# EAGLE library part TSW-D-70 (library con-samtec-tsw)
HEADER
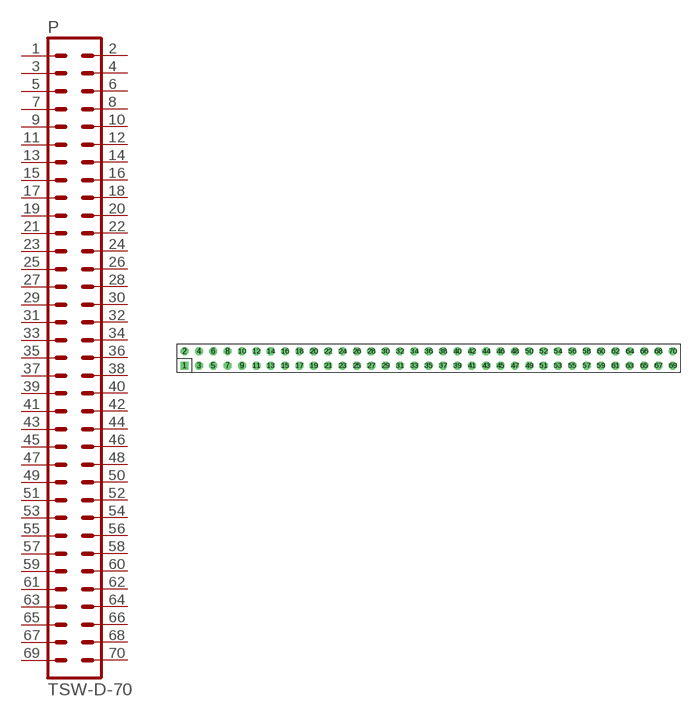
[diagram p122: symbol with the pads of TSW-D-70; footprint TSW-D-70]

Designator prefix P

## TSW-D-70  [TSW-D-70]
1  1  pas
2  2  pas
3  3  pas
4  4  pas
5  5  pas
6  6  pas
7  7  pas
8  8  pas
9  9  pas
10  10  pas
11  11  pas
12  12  pas
13  13  pas
14  14  pas
15  15  pas
16  16  pas
17  17  pas
18  18  pas
19  19  pas
20  20  pas
21  21  pas
22  22  pas
23  23  pas
24  24  pas
25  25  pas
26  26  pas
27  27  pas
28  28  pas
29  29  pas
30  30  pas
31  31  pas
32  32  pas
33  33  pas
34  34  pas
35  35  pas
36  36  pas
37  37  pas
38  38  pas
39  39  pas
40  40  pas
41  41  pas
42  42  pas
43  43  pas
44  44  pas
45  45  pas
46  46  pas
47  47  pas
48  48  pas
49  49  pas
50  50  pas
51  51  pas
52  52  pas
53  53  pas
54  54  pas
55  55  pas
56  56  pas
57  57  pas
58  58  pas
59  59  pas
60  60  pas
61  61  pas
62  62  pas
63  63  pas
64  64  pas
65  65  pas
66  66  pas
67  67  pas
68  68  pas
69  69  pas
70  70  pas

## Footprint TSW-D-70 (pad centres in mm)
HEADER
drill 0.914 square: 1 -43.18,-1.27
drill 0.914 octagon: 2 -43.18,1.27; 3 -40.64,-1.27; 4 -40.64,1.27; 5 -38.1,-1.27; 6 -38.1,1.27; 7 -35.56,-1.27; 8 -35.56,1.27; 9 -33.02,-1.27; 10 -33.02,1.27; 11 -30.48,-1.27; 12 -30.48,1.27; 13 -27.94,-1.27; 14 -27.94,1.27; 15 -25.4,-1.27; 16 -25.4,1.27; 17 -22.86,-1.27; 18 -22.86,1.27; 19 -20.32,-1.27; 20 -20.32,1.27; 21 -17.78,-1.27; 22 -17.78,1.27; 23 -15.24,-1.27; 24 -15.24,1.27; 25 -12.7,-1.27; 26 -12.7,1.27; 27 -10.16,-1.27; 28 -10.16,1.27; 29 -7.62,-1.27; 30 -7.62,1.27; 31 -5.08,-1.27; 32 -5.08,1.27; 33 -2.54,-1.27; 34 -2.54,1.27; 35 0,-1.27; 36 0,1.27; 37 2.54,-1.27; 38 2.54,1.27; 39 5.08,-1.27; 40 5.08,1.27; 41 7.62,-1.27; 42 7.62,1.27; 43 10.16,-1.27; 44 10.16,1.27; 45 12.7,-1.27; 46 12.7,1.27; 47 15.24,-1.27; 48 15.24,1.27; 49 17.78,-1.27; 50 17.78,1.27; 51 20.32,-1.27; 52 20.32,1.27; 53 22.86,-1.27; 54 22.86,1.27; 55 25.4,-1.27; 56 25.4,1.27; 57 27.94,-1.27; 58 27.94,1.27; 59 30.48,-1.27; 60 30.48,1.27; 61 33.02,-1.27; 62 33.02,1.27; 63 35.56,-1.27; 64 35.56,1.27; 65 38.1,-1.27; 66 38.1,1.27; 67 40.64,-1.27; 68 40.64,1.27; 69 43.18,-1.27; 70 43.18,1.27